# Altium footprint library TL431.PcbLib: 1 footprints
Each footprint in its own frame and in the unit in brackets; x right, y up, seen from the top. Pads: shape width x height; smd on the part's side, far side on the other; paste and mask are expansions set on the pad; w line width, h text height; cw(c..) or ccw(c..) is an arc to the next point about the centre after c.
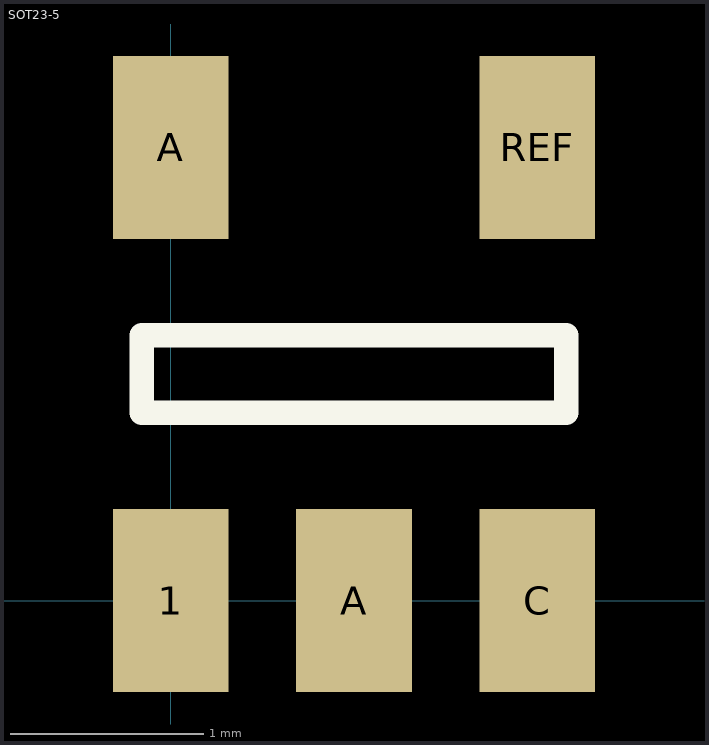
[diagram p0: the footprint, top view; thin cyan lines are the x and y axes]

## SOT23-5 [mm]
pads (5):
  rect 0.6x0.95 smd: 1(0,0) A(0,2.35) A(0.95,0) C(1.9,0) REF(1.9,2.35)
Top Overlay:
  lines w0.127: -0.15,0.975 2.05,0.975 2.05,1.375 -0.15,1.375 -0.15,0.975
3D body "SOT23-5.step": height 1, standoff 0, extent -0.52,-0.013 2.4,2.327